# Altium schematic symbol library V_12.SchLib: 4 symbols
Pins are listed as number, name and electrical type; pins without a type are passive.

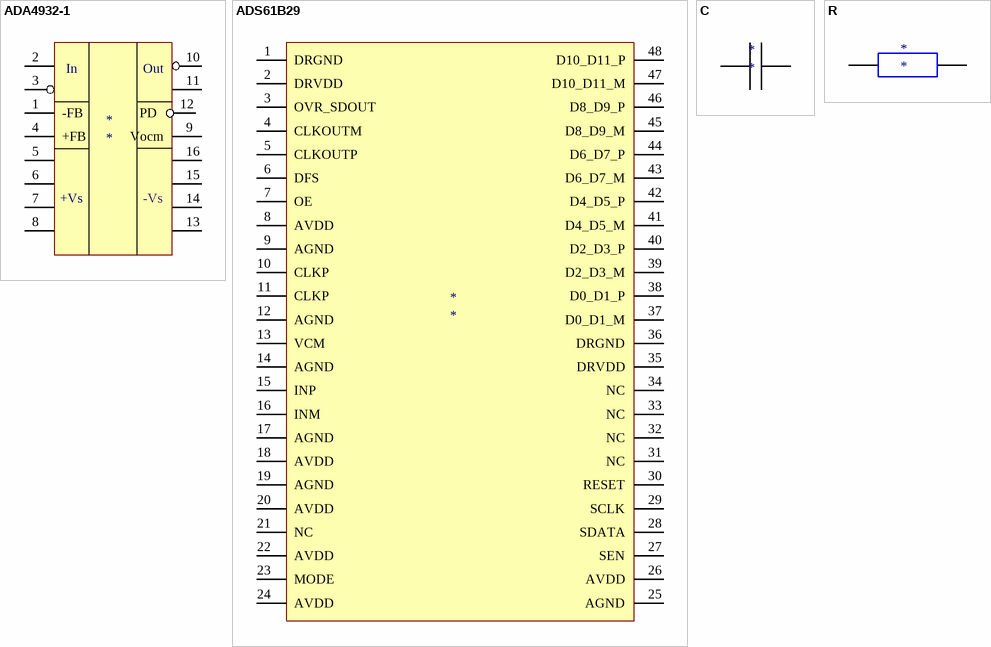
[diagram p0: symbols ADA4932-1 to R]

## ADA4932-1
designator *
pins: 1 -FB, 2 +IN, 3 -IN, 4 +FB, 5 +Vs, 6 +Vs, 7 +Vs, 8 +Vs, 9 Vocm, 10 +OUT, 11 -OUT, 12 PD, 13 -Vs, 14 -Vs, 15 -Vs, 16 -Vs
text: In; Out

## ADS61B29
designator *
pins: 1 DRGND, 2 DRVDD, 3 OVR_SDOUT, 4 CLKOUTM, 5 CLKOUTP, 6 DFS, 7 OE, 8 AVDD, 9 AGND, 10 CLKP, 11 CLKP, 12 AGND, 13 VCM, 14 AGND, 15 INP, 16 INM, 17 AGND, 18 AVDD, 19 AGND, 20 AVDD, 21 NC, 22 AVDD, 23 MODE, 24 AVDD, 25 AGND, 26 AVDD, 27 SEN, 28 SDATA, 29 SCLK, 30 RESET, 31 NC, 32 NC, 33 NC, 34 NC, 35 DRVDD, 36 DRGND, 37 D0_D1_M, 38 D0_D1_P, 39 D2_D3_M, 40 D2_D3_P, 41 D4_D5_M, 42 D4_D5_P, 43 D6_D7_M, 44 D6_D7_P, 45 D8_D9_M, 46 D8_D9_P, 47 D10_D11_M, 48 D10_D11_P

## C
designator *
pins: 1, 2

## R
designator *
pins: 1, 2